# Altium footprint library LIANGJICHAO_LIBRARY.PCBLIB: 178 footprints (part 5 of 12)
Each footprint in its own frame and in the unit in brackets; x right, y up, seen from the top. Pads: shape width x height; smd on the part's side, far side on the other; paste and mask are expansions set on the pad; w line width, h text height; cw(c..) or ccw(c..) is an arc to the next point about the centre after c.
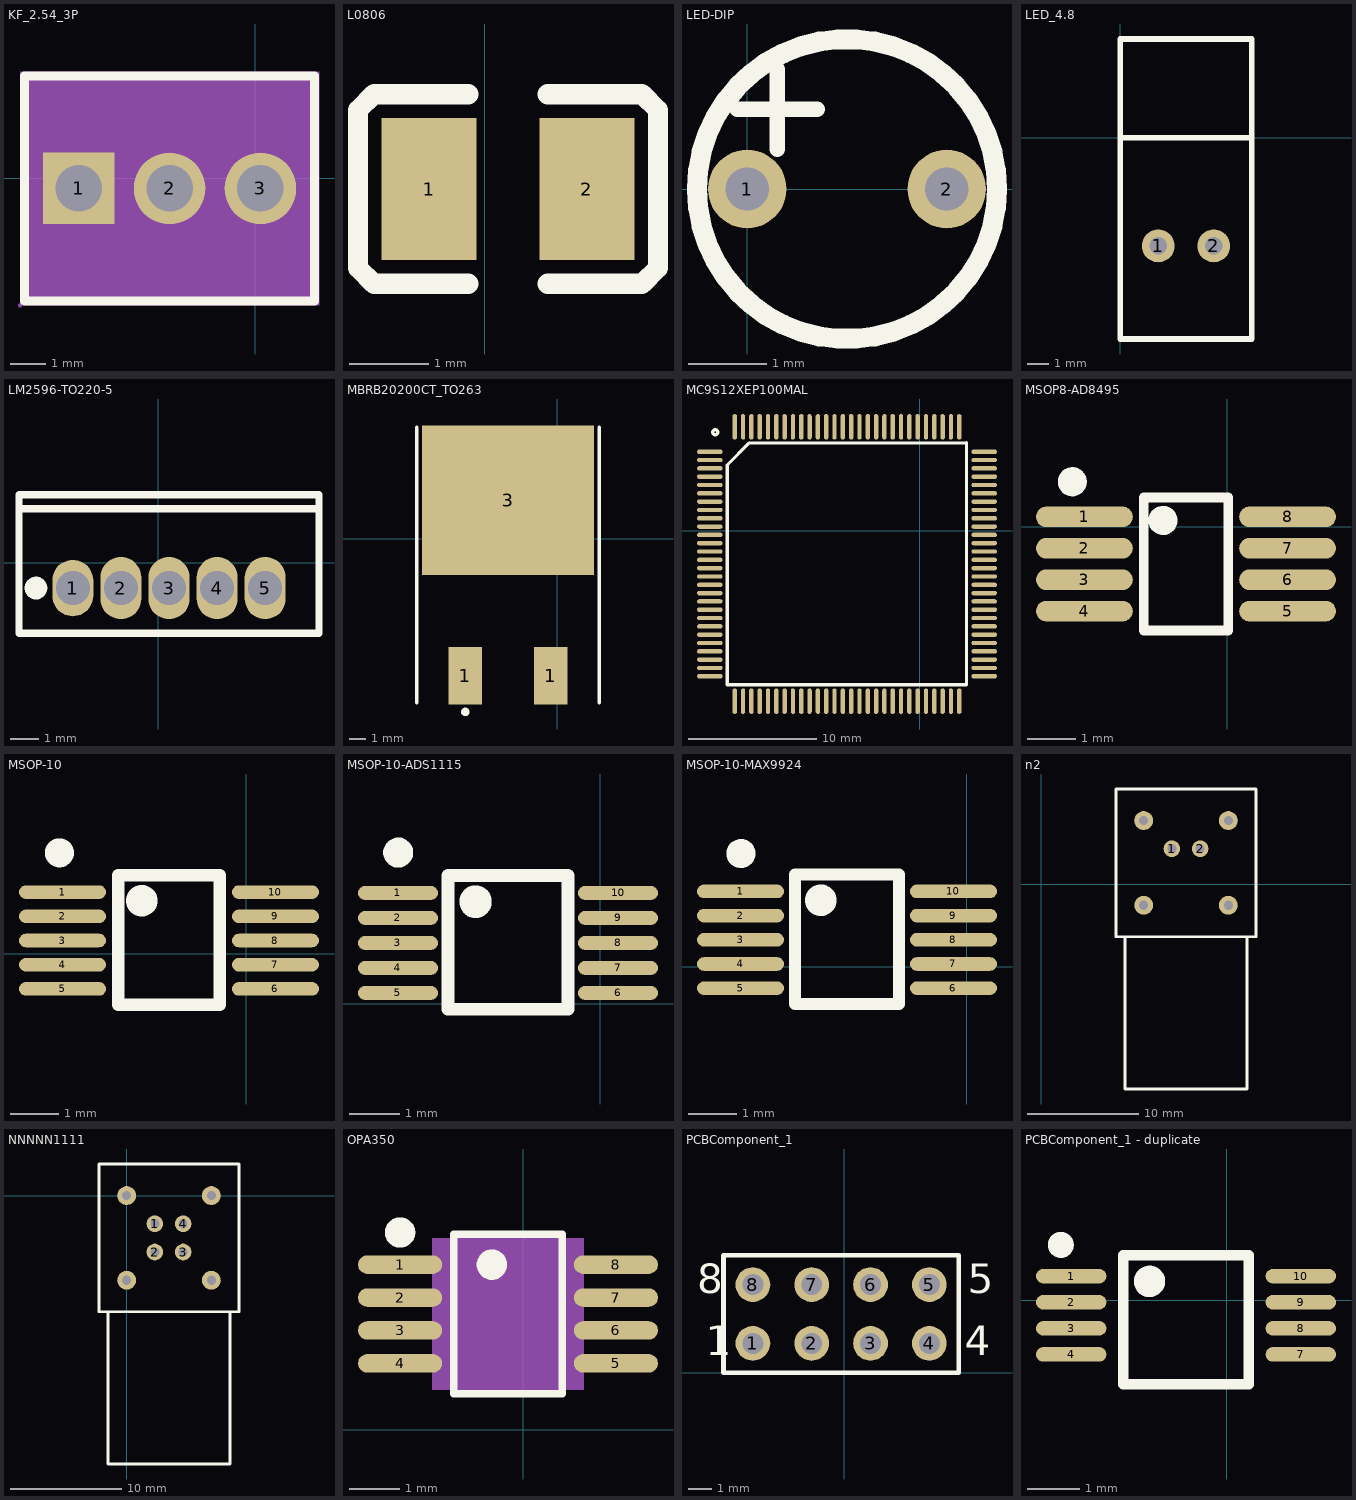
[diagram p4: the footprints below, top view; thin cyan lines are the x and y axes]

## KF_2.54_3P [mm]
pads (3):
  rect 2x2 hole 1.3: 1(-4.937,-0.284)
  round 2 hole 1.3: 2(-2.397,-0.284) 3(0.143,-0.284)
Top Overlay:
  lines w0.254: -6.447,-3.424 -6.447,2.856 1.653,2.856 1.653,-3.424 -6.447,-3.424
Mechanical 4:
  region: -6.574,2.983 1.78,2.983 1.78,-3.551 -6.574,-3.551
Mechanical 5:
  circle w0.55: c0.143,-0.284 r0.275
  circle w0.55: c-2.397,-0.284 r0.275
  circle w0.55: c-4.937,-0.284 r0.275
Mechanical 6:
  circle w0.06: c-6.574,-3.551 r0.03
Mechanical 15:
  lines w0.003: -2.437,0.105 -2.387,0.156

## L0806 [mm]
pads (2):
  rect 1.2x1.8 smd paste+0.051 mask+0: 1(-0.705,2.438) 2(1.295,2.438)
Top Overlay:
  lines w0.254: -0.205,1.238 -1.255,1.238 -1.405,1.238 -1.605,1.438 -1.605,3.438 -1.405,3.638 -1.255,3.638 -0.205,3.638 ; 0.795,1.238 1.845,1.238 1.995,1.238 2.195,1.438 2.195,3.438 1.995,3.638 1.845,3.638 0.795,3.638
Mechanical 6:
  lines w0.051: -0.705,1.638 -0.705,3.238 ; 1.295,1.638 1.295,3.238

## LED-DIP [mm]
pads (2):
  round 1 hole 0.55: 1(0,0) 2(2.54,0)
Top Overlay:
  circle w0.254: c1.27,0 r1.909
  lines w0.2: -0.127,1.016 0.889,1.016 ; 0.381,0.508 0.381,1.524

## LED_4.8 [mm]
pads (2):
  round 1.5 hole 0.8: 1(1.73,-4.95) 2(4.27,-4.95)
Top Overlay:
  lines w0.254: 0,0 0,-9.2 6,-9.2 6,0 ; 0,0 6,0 ; 0,0 0,4.5 6,4.5 6,0

## LM2596-TO220-5 [mm]
pads (5):
  oval 1.45x2 hole 1.2: 1(-3.019,-0.889)
  oval 1.45x2.2 hole 1.2: 2(-1.319,-0.889) 3(0.381,-0.889) 4(2.081,-0.889) 5(3.781,-0.889)
Top Overlay:
  circle w0.4: c-4.319,-0.889 r0.2
  lines w0.254: -4.819,1.911 5.681,1.911 ; -4.919,-2.489 5.681,-2.489 5.681,2.411 -4.919,2.411 -4.919,-2.489

## MBRB20200CT_TO263 [mm]
pads (3):
  rect 2x3.4 smd: 1(-5.461,-8.146) 1(-0.381,-8.146)
  rect 10.25x8.9 smd: 3(-2.921,2.304)
Top Overlay:
  circle w0.25: c-5.461,-10.296 r0.125
  lines w0.2: -8.346,-9.746 -8.346,6.654 ; 2.504,-9.746 2.504,6.654

## MC9S12XEP100MAL [mm]
pads (112):
  oval 2x0.34 smd: 1(-16.43,6.166) 2(-16.43,5.516) 3(-16.43,4.866) 4(-16.43,4.216) 5(-16.43,3.566) 6(-16.43,2.916) 7(-16.43,2.266) 8(-16.43,1.616) 9(-16.43,0.966) 10(-16.43,0.316) 11(-16.43,-0.334) 12(-16.43,-0.984) 13(-16.43,-1.634) 14(-16.43,-2.284) 15(-16.43,-2.934) 16(-16.43,-3.584) 17(-16.43,-4.234) 18(-16.43,-4.884) 19(-16.43,-5.534) 20(-16.43,-6.184) 21(-16.43,-6.834) 22(-16.43,-7.484) 23(-16.43,-8.134) 24(-16.43,-8.784) 25(-16.43,-9.434) 26(-16.43,-10.084) 27(-16.43,-10.734) 28(-16.43,-11.384) 57(5.02,-11.384) 58(5.02,-10.734) 59(5.02,-10.084) 60(5.02,-9.434) 61(5.02,-8.784) 62(5.02,-8.134) 63(5.02,-7.484) 64(5.02,-6.834) 65(5.02,-6.184) 66(5.02,-5.534) 67(5.02,-4.884) 68(5.02,-4.234) 69(5.02,-3.584) 70(5.02,-2.934) 71(5.02,-2.284) 72(5.02,-1.634) 73(5.02,-0.984) 74(5.02,-0.334) 75(5.02,0.316) 76(5.02,0.966) 77(5.02,1.616) 78(5.02,2.266) 79(5.02,2.916) 80(5.02,3.566) 81(5.02,4.216) 82(5.02,4.866) 83(5.02,5.516) 84(5.02,6.166)
  oval 0.34x2 smd: 29(-14.48,-13.334) 30(-13.83,-13.334) 31(-13.18,-13.334) 32(-12.53,-13.334) 33(-11.88,-13.334) 34(-11.23,-13.334) 35(-10.58,-13.334) 36(-9.93,-13.334) 37(-9.28,-13.334) 38(-8.63,-13.334) 39(-7.98,-13.334) 40(-7.33,-13.334) 41(-6.68,-13.334) 42(-6.03,-13.334) 43(-5.38,-13.334) 44(-4.73,-13.334) 45(-4.08,-13.334) 46(-3.43,-13.334) 47(-2.78,-13.334) 48(-2.13,-13.334) 49(-1.48,-13.334) 50(-0.83,-13.334) 51(-0.18,-13.334) 52(0.47,-13.334) 53(1.12,-13.334) 54(1.77,-13.334) 55(2.42,-13.334) 56(3.07,-13.334) 85(3.07,8.116) 86(2.42,8.116) 87(1.77,8.116) 88(1.12,8.116) 89(0.47,8.116) 90(-0.18,8.116) 91(-0.83,8.116) 92(-1.48,8.116) 93(-2.13,8.116) 94(-2.78,8.116) 95(-3.43,8.116) 96(-4.08,8.116) 97(-4.73,8.116) 98(-5.38,8.116) 99(-6.03,8.116) 100(-6.68,8.116) 101(-7.33,8.116) 102(-7.98,8.116) 103(-8.63,8.116) 104(-9.28,8.116) 105(-9.93,8.116) 106(-10.58,8.116) 107(-11.23,8.116) 108(-11.88,8.116) 109(-12.53,8.116) 110(-13.18,8.116) 111(-13.83,8.116) 112(-14.48,8.116)
Top Overlay:
  circle w0.25: c-15.998,7.69 r0.2
  lines w0.254: 3.627,6.858 -13.335,6.858 -15.062,5.131 -15.062,-12.056 3.632,-12.056 3.632,6.863

## MSOP8-AD8495 [mm]
pads (8):
  oval 2x0.43 smd: 1(-2.952,0.203) 2(-2.952,-0.447) 3(-2.952,-1.097) 4(-2.952,-1.747) 5(1.248,-1.747) 6(1.248,-1.097) 7(1.248,-0.447) 8(1.248,0.203)
Top Overlay:
  circle w0.3: c-1.327,0.128 r0.15
  circle w0.3: c-3.202,0.928 r0.15
  lines w0.2: -1.725,-2.147 -1.725,0.603 0.022,0.603 0.022,-2.147 -1.725,-2.147

## MSOP-10 [mm]
pads (10):
  oval 1.8x0.28 smd: 1(-3.795,1.27) 2(-3.795,0.77) 3(-3.795,0.27) 4(-3.795,-0.23) 5(-3.795,-0.73) 6(0.605,-0.73) 7(0.605,-0.23) 8(0.605,0.27) 9(0.605,0.77) 10(0.605,1.27)
Top Overlay:
  circle w0.4: c-2.157,1.092 r0.125
  circle w0.3: c-3.858,2.083 r0.15
  lines w0.254: -2.642,-1.055 -0.547,-1.055 -0.547,1.62 -2.642,1.62 -2.642,-1.055

## MSOP-10-ADS1115 [mm]
pads (10):
  oval 1.6x0.28 smd: 1(-4.041,2.216) 2(-4.041,1.716) 3(-4.041,1.216) 4(-4.041,0.716) 5(-4.041,0.216) 6(0.359,0.216) 7(0.359,0.716) 8(0.359,1.216) 9(0.359,1.716) 10(0.359,2.216)
Top Overlay:
  circle w0.4: c-2.491,2.041 r0.125
  circle w0.3: c-4.036,3.023 r0.15
  lines w0.254: -3.041,-0.109 -0.641,-0.109 -0.641,2.566 -3.041,2.566 -3.041,-0.109

## MSOP-10-MAX9924 [mm]
pads (10):
  oval 1.8x0.28 smd: 1(-4.679,1.554) 2(-4.679,1.054) 3(-4.679,0.554) 4(-4.679,0.054) 5(-4.679,-0.446) 6(-0.279,-0.446) 7(-0.279,0.054) 8(-0.279,0.554) 9(-0.279,1.054) 10(-0.279,1.554)
Top Overlay:
  circle w0.3: c-4.671,2.337 r0.15
  circle w0.4: c-3.021,1.372 r0.125
  lines w0.254: -3.552,-0.771 -3.552,1.904 -1.406,1.904 -1.406,-0.771 -3.552,-0.771

## n2 [mm]
pads (6):
  round 1.5 hole 0.82: 1(11.735,3.17) 2(14.275,3.17)
  round 1.7 hole 0.82: ""(9.195,-1.91) ""(9.195,5.71) ""(16.815,-1.91) ""(16.815,5.71)
Top Overlay:
  lines w0.254: 7.505,-5.867 7.505,-4.762 ; 7.505,-5.55 7.505,-18.437 18.494,-18.437 ; 18.505,-18.448 18.505,-5.55 ; 18.505,-5.829 18.505,-4.752 ; 6.705,-4.75 19.305,-4.75 19.305,8.55 6.705,8.55 6.705,-4.75

## NNNNN1111 [mm]
pads (8):
  round 1.5 hole 0.82: 1(2.54,-2.54) 2(2.54,-5.08) 3(5.08,-5.08) 4(5.08,-2.54)
  round 1.7 hole 0.82: ""(0,-7.62) ""(0,0) ""(7.62,-7.62) ""(7.62,0)
Top Overlay:
  lines w0.254: -1.69,-11.578 -1.69,-10.473 ; -1.69,-11.26 -1.69,-24.147 9.299,-24.147 ; 9.31,-24.158 9.31,-11.26 ; 9.31,-11.539 9.31,-10.462 ; -2.49,-10.46 10.11,-10.46 10.11,2.84 -2.49,2.84 -2.49,-10.46

## OPA350 [mm]
pads (8):
  oval 1.662x0.364 smd: 1(-2.436,3.261) 2(-2.436,2.611) 3(-2.436,1.961) 4(-2.436,1.311) 5(1.826,1.311) 6(1.826,1.961) 7(1.826,2.611) 8(1.826,3.261)
Top Overlay:
  circle w0.3: c-0.624,3.261 r0.15
  circle w0.3: c-2.436,3.895 r0.15
  lines w0.152: -1.376,0.71 0.767,0.71 0.767,3.862 -1.376,3.862 -1.376,0.71
Mechanical 4:
  region: -1.805,3.786 1.195,3.786 1.195,0.786 -1.805,0.786
Mechanical 5:
  region: -2.755,3.419 -2.205,3.419 -2.205,3.103 -2.755,3.103
  pour cut-out: -2.215,3.419 -1.795,3.419 -1.795,3.103 -2.215,3.103
  region: -2.755,2.768 -2.205,2.768 -2.205,2.453 -2.755,2.453
  pour cut-out: -2.215,2.768 -1.795,2.768 -1.795,2.453 -2.215,2.453
  region: -2.755,2.119 -2.205,2.119 -2.205,1.804 -2.755,1.804
  pour cut-out: -2.215,2.119 -1.795,2.119 -1.795,1.804 -2.215,1.804
  region: -2.755,1.469 -2.205,1.469 -2.205,1.153 -2.755,1.153
  pour cut-out: -2.215,1.469 -1.795,1.469 -1.795,1.153 -2.215,1.153
  region: 2.145,3.419 1.595,3.419 1.595,3.103 2.145,3.103
  pour cut-out: 1.605,3.419 1.185,3.419 1.185,3.103 1.605,3.103
  region: 2.145,2.768 1.595,2.768 1.595,2.453 2.145,2.453
  pour cut-out: 1.605,2.768 1.185,2.768 1.185,2.453 1.605,2.453
  region: 2.145,2.119 1.595,2.119 1.595,1.804 2.145,1.804
  pour cut-out: 1.605,2.119 1.185,2.119 1.185,1.804 1.605,1.804
  region: 2.145,1.469 1.595,1.469 1.595,1.153 2.145,1.153
  pour cut-out: 1.605,1.469 1.185,1.469 1.185,1.153 1.605,1.153

## PCBComponent_1 [mm]
pads (8):
  round 1.5 hole 0.9: 1(-3.937,1.27) 2(-1.397,1.27) 3(1.143,1.27) 4(3.683,1.27) 5(3.683,3.81) 6(1.143,3.81) 7(-1.397,3.81) 8(-3.937,3.81)
Top Overlay:
  lines w0.2: -5.207,0 -5.207,5.08 4.953,5.08 4.953,0 -5.207,0
  text "8" at -6.35,3.429 h1.27
  text "4" at 5.207,0.762 h1.27
  text "1" at -5.969,0.762 h1.27
  text "5" at 5.334,3.429 h1.27

## PCBComponent_1 - duplicate [mm]
pads (8):
  oval 1.35x0.28 smd: 1(-2.977,0.457) 2(-2.977,-0.043) 3(-2.977,-0.543) 4(-2.977,-1.043) 7(1.423,-1.043) 8(1.423,-0.543) 9(1.423,-0.043) 10(1.423,0.457)
Top Overlay:
  circle w0.25: c-3.177,1.057 r0.125
  circle w0.35: c-1.477,0.357 r0.125
  lines w0.2: -1.977,-1.613 0.423,-1.613 0.423,0.857 -1.977,0.857 -1.977,-1.613